# Altium footprint library DC-146-BJ100AT01.PcbLib: 1 footprints
Each footprint in its own frame and in the unit in brackets; x right, y up, seen from the top. Pads: shape width x height; smd on the part's side, far side on the other; paste and mask are expansions set on the pad; w line width, h text height; cw(c..) or ccw(c..) is an arc to the next point about the centre after c.
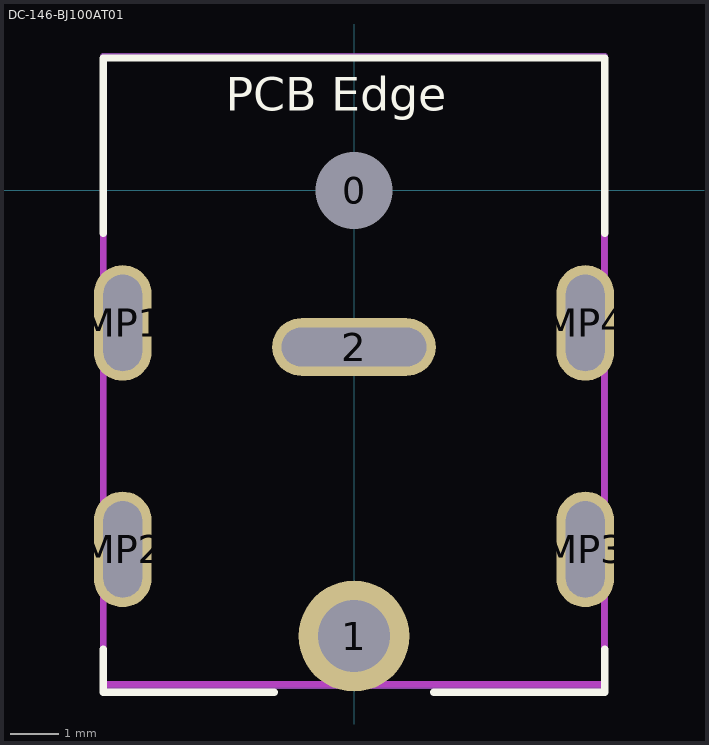
[diagram p0: the footprint, top view; thin cyan lines are the x and y axes]

## DC-146-BJ100AT01 [mm]
pads (7):
  round 1 hole 1.6 unplated: 0(0,0)
  round 2.3 hole 1.5: 1(0,-9.25)
  oval 3.4x1.2 hole 0.8 slot 3 at 0 deg: 2(0,-3.25)
  oval 1.2x2.4 hole 0.8 slot 2 at 90 deg: MP1(-4.8,-2.75) MP2(-4.8,-7.45) MP3(4.8,-7.45) MP4(4.8,-2.75)
Top Overlay:
  lines w0.152: -5.207,-9.525 -5.207,-10.414 -1.651,-10.414 ; -5.207,-0.889 -5.207,2.75 -5.005,2.75 4.995,2.75 5.207,2.75 5.207,-0.889 ; 1.651,-10.414 5.207,-10.414 5.207,-9.525
  text "PCB Edge" at -2.667,1.651 h0.7
Mechanical 13:
  lines w0.127: -5.207,-10.287 -5.207,2.75 5.207,2.75 5.207,-10.287 -5.207,-10.287
Mechanical 15:
  lines w0.127: -5.207,-10.287 -5.207,2.794 5.207,2.794 5.207,-10.287 -5.207,-10.287
  text "Milling Area" at -3.5,-6.35 h1.52
Mechanical 15 keep-out:
  lines w0.127: -5.205,-10.287 -5.205,-0.2 ; -5.205,-10.25 5.195,-10.25 ; 5.195,-10.287 5.195,-0.2
3D body: height 10, standoff -2.2, extent -5,-10.225 5,2.925